# Altium schematic symbol library DIA_SHOTTKY_2_COMMON_ANODE.SchLib: 1 symbol
Pins are listed as number, name and electrical type; pins without a type are passive.

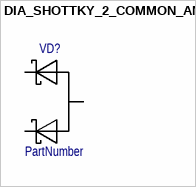
[diagram p0: symbol DIA_SHOTTKY_2_COMMON_ANODE]

## DIA_SHOTTKY_2_COMMON_ANODE
designator VD?  (value not drawn)
Диодная сборка из двух диодов Шоттки с общим анодом; PartNumber: PartNumber
pins: 1, 2, 3